# EAGLE library part 621X44242921 (library Wurth_Elektronik_Electromechanic_Board_to_Board_Connectors_rev16a)
WR-PHD 2.00mm Dual SMT Socket Header, 44 Pins=>Code : Con_BTB_SHD_2.00_2_621x44242921(Packaging:x = 0: Tube x = 3: Tape & Reel with Cap; 600 pcs/Reel) <http://katalog.we-online.de/media/thumbs2/eican/thb_Con_BTB_SHD_2.00_2_6210xx242921_pf2.jpg> 6210xx242921 Details see: http://katalog.we-online.de/en/em/621_0xx_242_921 6213xx242921 Details see: http://katalog.we-online.de/en/em/PHD_2_00_SMT_DUAL_SOCKET_HEADER_REEL_6213XX242921 2014 (C) Würth Elektronik
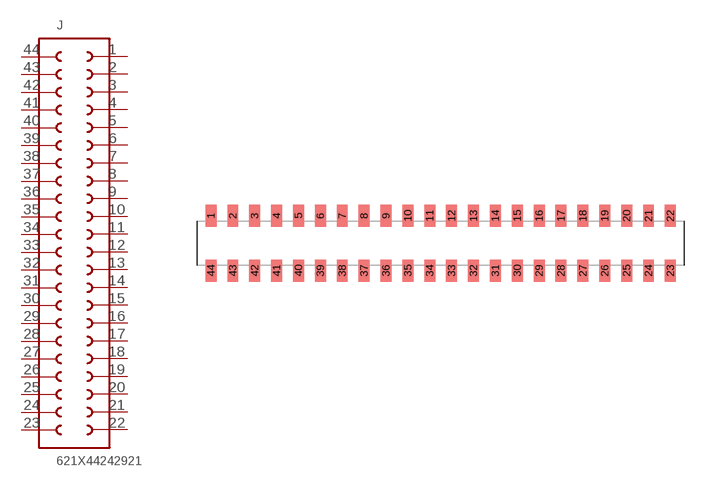
[diagram p274: symbol with the pads of 621X44242921; footprint 621X44242921]

Designator prefix J

## 621X44242921  [621X44242921]
1  1  pas
2  2  pas
3  3  pas
4  4  pas
5  5  pas
6  6  pas
7  7  pas
8  8  pas
9  9  pas
10  10  pas
11  11  pas
12  12  pas
13  13  pas
14  14  pas
15  15  pas
16  16  pas
17  17  pas
18  18  pas
19  19  pas
20  20  pas
21  21  pas
22  22  pas
23  23  pas
24  24  pas
25  25  pas
26  26  pas
27  27  pas
28  28  pas
29  29  pas
30  30  pas
31  31  pas
32  32  pas
33  33  pas
34  34  pas
35  35  pas
36  36  pas
37  37  pas
38  38  pas
39  39  pas
40  40  pas
41  41  pas
42  42  pas
43  43  pas
44  44  pas

## Footprint 621X44242921 (pad centres in mm)
WR-PHD 2.00mm Dual SMT Socket Header, 44 Pins
smd 1 x 2: 1 -21,2.5; 2 -19,2.5; 3 -17,2.5; 4 -15,2.5; 5 -13,2.5; 6 -11,2.5; 7 -9,2.5; 8 -7,2.5; 9 -5,2.5; 10 -3,2.5; 11 -1,2.5; 12 1,2.5; 13 3,2.5; 14 5,2.5; 15 7,2.5; 16 9,2.5; 17 11,2.5; 18 13,2.5; 19 15,2.5; 20 17,2.5; 21 19,2.5; 22 21,2.5; 23 21,-2.5; 24 19,-2.5; 25 17,-2.5; 26 15,-2.5; 27 13,-2.5; 28 11,-2.5; 29 9,-2.5; 30 7,-2.5; 31 5,-2.5; 32 3,-2.5; 33 1,-2.5; 34 -1,-2.5; 35 -3,-2.5; 36 -5,-2.5; 37 -7,-2.5; 38 -9,-2.5; 39 -11,-2.5; 40 -13,-2.5; 41 -15,-2.5; 42 -17,-2.5; 43 -19,-2.5; 44 -21,-2.5